# Altium schematic symbol library MG90S.SchLib: 1 symbol
Pins are listed as number, name and electrical type; pins without a type are passive.

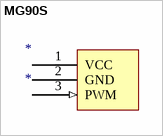
[diagram p0: symbol MG90S]

## MG90S
designator *
pins: 1 VCC (power), 2 GND (power), 3 PWM (in)